# Altium integrated library gwu_bmen4020_lib.IntLib: 27 symbols
Pins are listed as number, name and electrical type; pins without a type are passive.

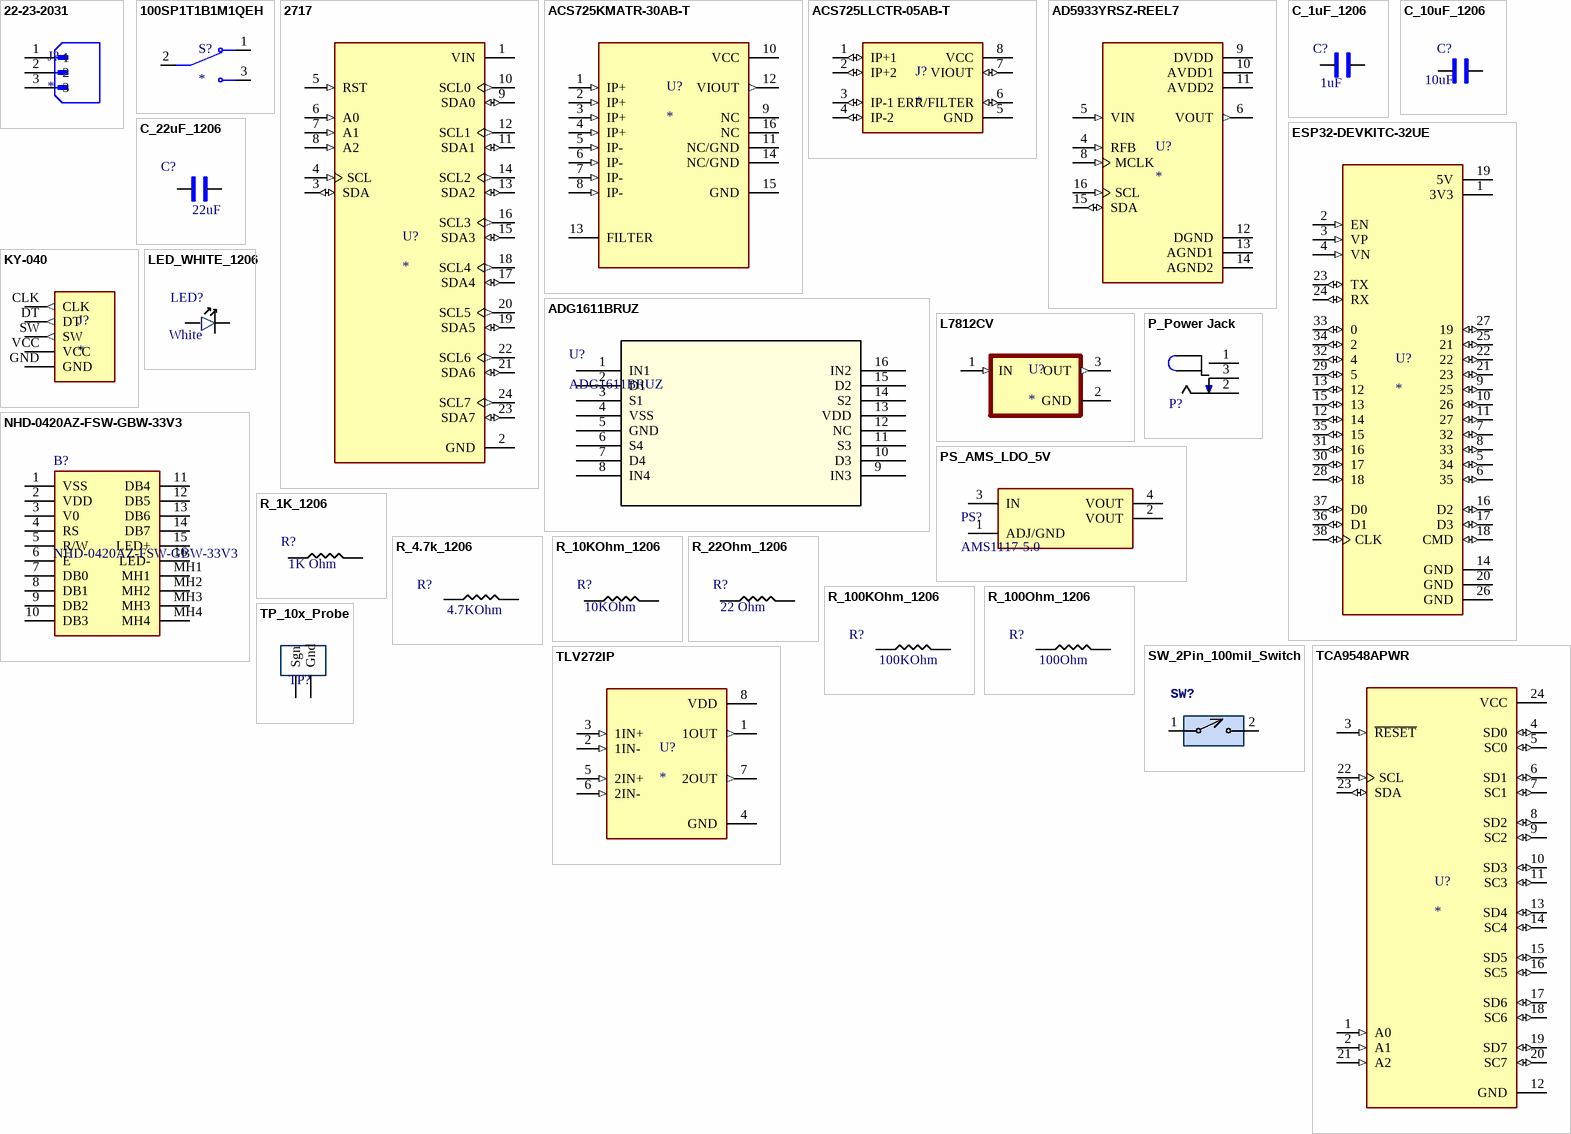
[diagram p0: symbols 22-23-2031 to TP_10x_Probe]

## 22-23-2031
designator J?
Conn Wire to Board HDR 3 POS 2.54mm Solder ST Top Entry Thru-Hole KKÂ® Bag; MF: Molex; MP: 22232031; SnapEDA_Link: https://www.snapeda.com/parts/22232031/Molex/view-part/?ref=snap; Package: None; Value: *; Check_prices: https://www.snapeda.com/parts/22232031/Molex/view-part/?ref=eda
footprint MOLEX_22-23-2031
pins: 1, 2, 3

## 100SP1T1B1M1QEH
designator S?
Toggle Switch, 100 Series, SPDT, ON-NONE-ON, Sealed, 5A, 120VAC, 28VDC, Solder | E-Switch 100SP1T1B1M1QEH; SnapEDA_Link: https://www.snapeda.com/parts/100SP1T1B1M1QEH/E-Switch/view-part/?ref=snap; Package: None; Value: *; MF: E-Switch; MP: 100SP1T1B1M1QEH; Check_prices: https://www.snapeda.com/parts/100SP1T1B1M1QEH/E-Switch/view-part/?ref=eda
footprint SW_100SP1T1B1M1QEH
pins: 1, 2, 3

## 2717
designator U?
Module: multiplexer; I2C interface multiplexer; TCA9548A; 3Ã·5VDC; MF: Adafruit; MP: 2717; SnapEDA_Link: https://www.snapeda.com/parts/2717/Adafruit+Industries/view-part/?ref=snap; Package: None; Value: *; Check_prices: https://www.snapeda.com/parts/2717/Adafruit+Industries/view-part/?ref=eda
footprint MODULE_2717
pins: 1 VIN (power), 2 GND (power), 3 SDA (io), 4 SCL (in), 5 RST (in), 6 A0 (in), 7 A1 (in), 8 A2 (in), 9 SDA0 (io), 10 SCL0 (out), 11 SDA1 (io), 12 SCL1 (out), 13 SDA2 (io), 14 SCL2 (out), 15 SDA3 (io), 16 SCL3 (out), 17 SDA4 (io), 18 SCL4 (out), 19 SDA5 (io), 20 SCL5 (out), 21 SDA6 (io), 22 SCL6 (out), 23 SDA7 (io), 24 SCL7 (out)

## ACS725KMATR-30AB-T
designator U?
Automotive-Grade, High Accuracy, CM field rejection, Isolated Current Sensor IC; MF: Allegro MicroSystems; MP: ACS725KMATR-30AB-T; SnapEDA_Link: https://www.snapeda.com/parts/ACS725KMATR-30AB-T/Allegro/view-part/?ref=snap; Package: - Allegro MicroSystems LLC; Value: *; Check_prices: https://www.snapeda.com/parts/ACS725KMATR-30AB-T/Allegro/view-part/?ref=eda
footprint SOIC127P1030X265-16N
pins: 1 IP+ (in), 2 IP+ (in), 3 IP+ (in), 4 IP+ (in), 5 IP- (in), 6 IP- (in), 7 IP- (in), 8 IP- (in), 9 NC, 10 VCC (power), 11 NC/GND, 12 VIOUT (out), 13 FILTER, 14 NC/GND, 15 GND (power), 16 NC

## ACS725LLCTR-05AB-T
designator J?
Current Sensor 5A 1 Channel Hall Effect, Differential Bidirectional 8-SOIC (0.154, 3.90mm Width); MF: Allegro MicroSystems; MP: ACS725LLCTR-05AB-T; SnapEDA_Link: https://www.snapeda.com/parts/ACS725LLCTR-05AB-T/Allegro/view-part/?ref=snap; Package: SOIC-8 Allegro MicroSystems, LLC; Value: *; Check_prices: https://www.snapeda.com/parts/ACS725LLCTR-05AB-T/Allegro/view-part/?ref=eda
footprint SOIC127P600X175-8N
pins: 1 IP+1 (io), 2 IP+2 (io), 3 IP-1 (io), 4 IP-2 (io), 5 GND (power), 6 ERR/FILTER (io), 7 VIOUT (io), 8 VCC (power)

## AD5933YRSZ-REEL7
designator U?
1 MSPS, 12-Bit Impedance Converter, Network Analyzer; MF: Analog Devices; MP: AD5933YRSZ-REEL7; SnapEDA_Link: https://www.snapeda.com/parts/AD5933YRSZ-REEL7/Analog+Devices/view-part/?ref=snap; Package: SSOP-16 Analog Devices; Value: *; Check_prices: https://www.snapeda.com/parts/AD5933YRSZ-REEL7/Analog+Devices/view-part/?ref=eda
footprint SOP65P780X200-16N
pins: 4 RFB (in), 5 VIN (in), 6 VOUT (out), 8 MCLK (in), 9 DVDD (power), 10 AVDD1 (power), 11 AVDD2 (power), 12 DGND (power), 13 AGND1 (power), 14 AGND2 (power), 15 SDA (io), 16 SCL (in)

## ADG1611BRUZ
designator U?
1 Î© Typical On Resistance, Â±5 V, +12 V, +5 V, and +3.3 V Quad SPST Switches; Manufacturer_Name: Analog Devices Inc; Copyright: Copyright (C) 2026 Ultra Librarian. All rights reserved.; Manufacturer_Part_Number: ADG1611BRUZ; RefDes: RefDes; Type: Type
footprint RU_16_ADI
pins: 1 IN1, 2 D1, 3 S1, 4 VSS, 5 GND, 6 S4, 7 D4, 8 IN4, 9 IN3, 10 D3, 11 S3, 12 NC, 13 VDD (power), 14 S2, 15 D2, 16 IN2

## C_1uF_1206
designator C?, comment 1uF
MULTILAYER CERAMIC CAPACITORS MLCC - SMD/SMT 1UF 50V 1206 ROHS; MFR Part #: CL31B105KBHNNNE; Type: Basic; Digikey Link: https://www.digikey.com/product-detail/en/C1206C105M4RACTU/399-8150-1-ND/3471873/?itemSeq=304982366; LCSC Part#: C1848; Value: 1uF
footprint 1206_Passive_Capacitor
pins: 1, 2

## C_10uF_1206
designator C?, comment 10uF
10uF ±10% 50V X5R 1206 Multilayer Ceramic Capacitors MLCC - SMD/SMT RoHS; MFR Part #: CL31A106KBHNNNE; Type: Basic; LCSC Part#: C13585; Datasheet: https://datasheet.lcsc.com/lcsc/1810221112_Samsung-Electro-Mechanics-CL31A106KBHNNNE_C13585.pdf; Value: 10uF
footprint 1206_Passive_Capacitor
pins: 1, 2

## C_22uF_1206
designator C?, comment 22uF
22uF ±10% 25V X5R 1206 Multilayer Ceramic Capacitors MLCC - SMD/SMT RoHS; MFR Part #: CL31A226KAHNNNE; Type: basic; LCSC Part#: C12891; Datasheet: https://datasheet.lcsc.com/lcsc/1811031514_Samsung-Electro-Mechanics-CL31A226KAHNNNE_C12891.pdf; Value: 22uF
footprint 1206_Passive_Capacitor
pins: 1, 2

## ESP32-DEVKITC-32UE
designator U?
The ESP32-DEVKITC-32UE evaluation board from Espressif Systems is designed for seamless wireless connectivity in IoT applications. Powered by the ESP32-WROOM-32UE module, it supports dual-mode BluetoothÂ® Smart Ready 4.x and 802.11 b/g/n Wi-Fi at 2.4GHz.; SnapEDA_Link: https://www.snapeda.com/parts/ESP32-DEVKITC-32UE/Espressif+Systems/view-part/?ref=snap; Package: CUSTOM-38 ESPRESSIF; Value: *; MF: Espressif Systems; MP: ESP32-DEVKITC-32UE; Check_prices: https://www.snapeda.com/parts/ESP32-DEVKITC-32UE/Espressif+Systems/view-part/?ref=eda
footprint ESPRESSIF_ESP32-DEVKITC-32UE
pins: 1 3V3 (power), 2 EN (in), 3 VP (in), 4 VN (in), 5 34 (io), 6 35 (io), 7 32 (io), 8 33 (io), 9 25 (io), 10 26 (io), 11 27 (io), 12 14 (io), 13 12 (io), 14 GND (power), 15 13 (io), 16 D2 (io), 17 D3 (io), 18 CMD (io), 19 5V (power), 20 GND (power), 21 23 (io), 22 (io), 23 TX (io), 24 RX (io), 25 21 (io), 26 GND (power), 27 19 (io), 28 18 (io), 29 5 (io), 30 17 (io), 31 16 (io), 32 4 (io), 33 0 (io), 34 2 (io), 35 15 (io), 36 D1 (io), 37 D0 (io), 38 CLK (io)

## KY-040
designator J?
KY-5.0-4P Green(RAL6018/T) ; CONTACT WITH TIN PLATED MARK; MP: KY-040; MF: Joy-IT; Package: Package; Availability: Not in stock; Value: *; SnapEDA_Link: https://www.snapeda.com/parts/KY-040/Joy-IT/view-part/?ref=snap; Price: None; Check_prices: https://www.snapeda.com/parts/KY-040/Joy-IT/view-part/?ref=eda
footprint KY-040-PORT
pins: CLK (out), DT (out), GND (power), SW (out), VCC (power)

## L7812CV
designator U?
Linear Voltage Regulator IC Positive Fixed 1 Output 1.5A TO-220; MF: STMicroelectronics; MP: L7812CV; SnapEDA_Link: https://www.snapeda.com/parts/L7812CV/STMicroelectronics/view-part/?ref=snap; Package: TO-220-3 STMicroelectronics; Value: *; Check_prices: https://www.snapeda.com/parts/L7812CV/STMicroelectronics/view-part/?ref=eda
footprint TO-220-3
pins: 1 IN (in), 2 GND (power), 3 OUT (out)

## LED_WHITE_1206
designator LED?, comment White
White light 1206  Light Emitting Diodes (LED) ROHS; MFR Part #: NCD1206W1; Type: Extended; LCSC Part#: C130718; Datasheet: https://datasheet.lcsc.com/lcsc/2008201033_Foshan-NationStar-Optoelectronics-NCD1206W1_C130718.pdf; Value: White
footprint LED_1206
pins: 1, 2

## NHD-0420AZ-FSW-GBW-33V3
designator B?
LCD Character Display Modules & Accessories STN- GRAY Transfl 77.5 x 47.0; Manufacturer_Name: Newhaven Display; Geometry.Height: 14.5mm; Manufacturer_Part_Number: NHD-0420AZ-FSW-GBW-33V3; Mouser Part Number: 763-0420AZFSWGBW33V3; Mouser Price/Stock: https://www.mouser.co.uk/ProductDetail/Newhaven-Display/NHD-0420AZ-FSW-GBW-33V3?qs=G49gCGQm93jUf0i9XnwMsw%3D%3D; Arrow Part Number: *; Arrow Price/Stock: *; Datasheet Link: http://www.newhavendisplay.com/specs/NHD-0420AZ-FSW-GBW-33V3.pdf
footprint NHD0420AZFSWGBW33V3
pins: 1 VSS, 2 VDD, 3 V0, 4 RS, 5 R/W, 6 E, 7 DB0, 8 DB1, 9 DB2, 10 DB3, 11 DB4, 12 DB5, 13 DB6, 14 DB7, 15 LED+, 16 LED-, MH1, MH2, MH3, MH4

## P_Power Jack
designator P?, comment Power Jack  (value not drawn)
Power Barrel Connector Jack 2.10mm ID (0.083"), 5.50mm OD (0.217") Through Hole, Right Angle; MFR Part #: PJ-102A; Value: CONN PWR JACK 2X5.5MM SOLDER; Digikey Link: https://www.digikey.com/product-detail/en/PJ-102A/CP-102A-ND/275425/?itemSeq=304982367; LCSC Part#: C136744; Type: Extended
footprint Power_Jack
pins: 1 (power), 2 (power), 3 (power)

## PS_AMS_LDO_5V
designator PS?, comment AMS1117-5.0
LOW DROPOUT REGULATORS(LDO) POSITIVE FIXED 1.3V @ 1A 15V 5V 1A SOT-223 ROHS; Value: IC REG LINEAR 5V 1A SOT223; MFR Part #: AMS1117-5.0; LCSC Part#: C6187; Type: Basic
footprint LDO
pins: 1 ADJ/GND, 2 VOUT (power), 3 IN (power), 4 VOUT (power)

## R_1K_1206
designator R?, comment value 1K Ohm  (hidden comment: 1k)
CHIP RESISTOR - SURFACE MOUNT 1KOHMS ±1% 1/4W 1206 ROHS; MFR Part #: RNCP1206FTD1K00CT; Digikey Link: https://www.digikey.com/product-detail/en/RNCP1206FTD1K00/RNCP1206FTD1K00CT-ND/2240675/?itemSeq=304982373; LCSC Part#: C4410; Type: Basic
footprint 1206_Passive_Resitor
pins: 1, 2

## R_4.7k_1206
designator R?, comment 4.7KOhm
4.7kΩ ±1% 0.25W ±100ppm/℃ 1206 Chip Resistor - Surface Mount RoHS; MFR Part #: 1206W4F4701T5E; LCSC Part#: C17936; Datasheet: https://datasheet.lcsc.com/lcsc/1810301414_UNI-ROYAL-Uniroyal-Elec-1206W4F4701T5E_C17936.pdf; Type: Basic; Value: 4.7KOhm
footprint 1206_Passive_Resitor
pins: 1, 2

## R_10KOhm_1206
designator R?, comment value 10KOhm  (hidden comment: 10k)
10 kOhms ±5% 0.25W, 1/4W Chip Resistor 1206 (3216 Metric) Automotive AEC-Q200 Thick Film; MFR Part #: RMCF1206FT10K0; Digikey Link: https://www.digikey.com/en/products/detail/stackpole-electronics-inc/RMCF1206FT10K0/1759669; LCSC Part#: C17902; Type: Basic
footprint 1206_Passive_Resitor
pins: 1, 2

## R_22Ohm_1206
designator R?, comment value 22 Ohm  (hidden comment: 22Ohm)
CHIP RESISTOR - SURFACE MOUNT 22OHMS ±1% 1/4W 1206 ROHS; MFR Part #: 1206W4F220JT5E; Type: Basic; LCSC Part#: C17958
footprint 1206_Passive_Resitor
pins: 1, 2

## R_100KOhm_1206
designator R?, comment 100KOhm
100kΩ ±1% 0.25W ±100ppm/℃ 1206 Chip Resistor - Surface Mount RoHS; MFR Part #: 1206W4F1003T5E; LCSC Part#: C17900; Datasheet: https://datasheet.lcsc.com/lcsc/1810301421_UNI-ROYAL-Uniroyal-Elec-1206W4F1003T5E_C17900.pdf; Type: Basic; Value: 100KOhm
footprint 1206_Passive_Resitor
pins: 1, 2

## R_100Ohm_1206
designator R?, comment 100Ohm
100Ω ±1% 0.25W ±100ppm/℃ 1206 Chip Resistor - Surface Mount RoHS; MFR Part #: 1206W4F1000T5E; LCSC Part#: C17901; Datasheet: https://datasheet.lcsc.com/lcsc/2206010145_UNI-ROYAL-Uniroyal-Elec-1206W4F1000T5E_C17901.pdf; Type: Basic; Value: 100Ohm
footprint 1206_Passive_Resitor
pins: 1, 2

## SW_2Pin_100mil_Switch
designator SW?
2Pin Header; LCSC Part#: C124375; Type: Extended
footprint 2Pin-Header-Conn
pins: 1, 2

## TCA9548APWR
designator U?
8-channel 1.65- to 5.5-V I2C/SMBus switch with reset & voltage translation; MF: Texas Instruments; MP: TCA9548APWR; SnapEDA_Link: https://www.snapeda.com/parts/TCA9548APWR/Texas+Instruments/view-part/?ref=snap; Package: TSSOP-24 Texas Instruments; Value: *; Check_prices: https://www.snapeda.com/parts/TCA9548APWR/Texas+Instruments/view-part/?ref=eda
footprint SOP65P640X120-24N
pins: 1 A0 (in), 2 A1 (in), 3 ~{RESET} (in), 4 SD0 (io), 5 SC0 (io), 6 SD1 (io), 7 SC1 (io), 8 SD2 (io), 9 SC2 (io), 10 SD3 (io), 11 SC3 (io), 12 GND (power), 13 SD4 (io), 14 SC4 (io), 15 SD5 (io), 16 SC5 (io), 17 SD6 (io), 18 SC6 (io), 19 SD7 (io), 20 SC7 (io), 21 A2 (in), 22 SCL (in), 23 SDA (io), 24 VCC (power)

## TLV272IP
designator U?
Dual, 16-V, 3-MHz operational amplifier; MF: Texas Instruments; MP: TLV272IP; SnapEDA_Link: https://www.snapeda.com/parts/TLV272IP/Texas+Instruments/view-part/?ref=snap; Package: PDIP-8 Texas; Value: *; Check_prices: https://www.snapeda.com/parts/TLV272IP/Texas+Instruments/view-part/?ref=eda
footprint DIP794W45P254L959H508Q8
pins: 1 1OUT (out), 2 1IN- (in), 3 1IN+ (in), 4 GND (power), 5 2IN+ (in), 6 2IN- (in), 7 2OUT (out), 8 VDD (power)

## TP_10x_Probe
designator TP?, comment 10x Probe TP  (value not drawn)
Test Point 300 mil centers
footprint TP10x_Probe (Small Probs footprint)
pins: 1 Sgn, 2 Gnd